# Altium schematic symbol library Connector.SchLib: 1 symbol
Pins are listed as number, name and electrical type; pins without a type are passive.

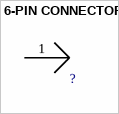
[diagram p0: symbol 6-PIN CONNECTOR]

## 6-PIN CONNECTOR
designator ?  (value not drawn)
Value: *
footprint CONNECTORS
pins: 1